# Altium footprint library DR127.PcbLib: 1 footprints
Each footprint in its own frame and in the unit in brackets; x right, y up, seen from the top. Pads: shape width x height; smd on the part's side, far side on the other; paste and mask are expansions set on the pad; w line width, h text height; cw(c..) or ccw(c..) is an arc to the next point about the centre after c.
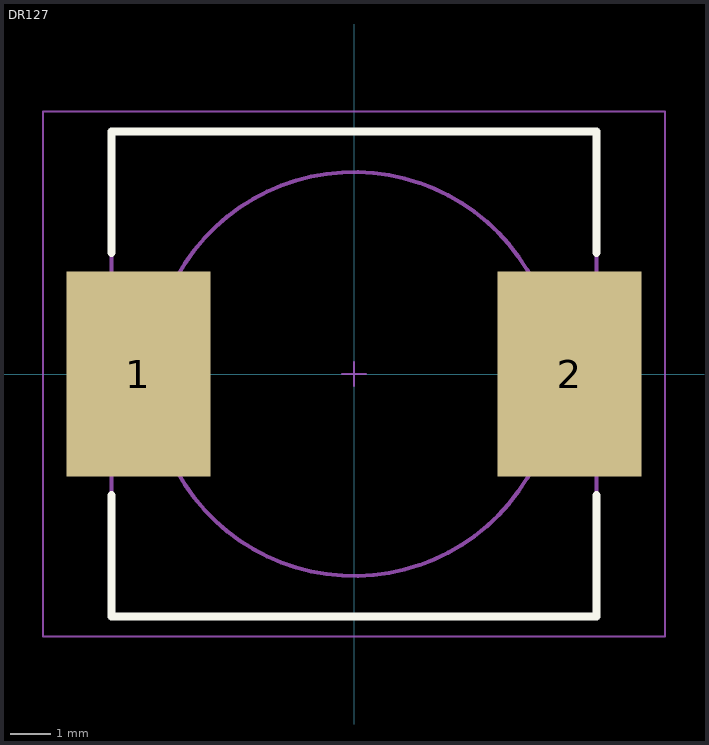
[diagram p0: the footprint, top view; thin cyan lines are the x and y axes]

## DR127 [mil]
height 295.28
pads (2):
  rect 140x200 smd: 1(-210,0) 2(210,0)
Top Overlay:
  lines w7.87: -236.22,-118.11 -236.22,-236.22 236.22,-236.22 236.22,-118.11 ; -236.22,118.11 -236.22,236.22 236.22,236.22 236.22,118.11
Mechanical 13:
  circle w3.94: c0,0 r196.85
  lines w3.94: -236.22,-236.22 -236.22,236.22 236.22,236.22 236.22,-236.22 -236.22,-236.22
Mechanical 15:
  lines w1.97: -11.81,0 11.81,0 ; 0,-11.81 0,11.81 ; -303.15,-255.91 -303.15,255.91 303.15,255.91 303.15,-255.91 -303.15,-255.91
3D body: height 295.28, standoff 0, extent -236.2,-236.2 236.2,236.2